# EAGLE library part TS6_7.5 (library wheat)
TERMINAL STRIP, 46 POSITION 7.5MM
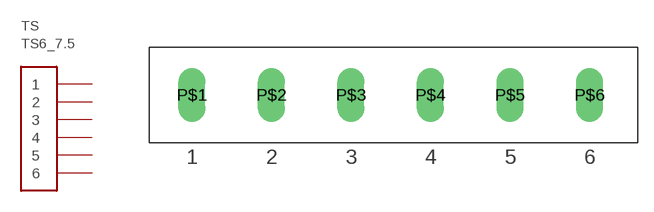
[diagram p20: symbol with the pads of TS6_7.5; footprint TS6_7.5]

Designator prefix TS

## TS6_7.5  [TS6_7.5]
P$1  1  pas
P$2  2  pas
P$3  3  pas
P$4  4  pas
P$5  5  pas
P$6  6  pas

## Footprint TS6_7.5 (pad centres in mm)
TERMINAL STRIP, 6 POS 7.5 MM
drill 1.27 pad 2.54 long: P$1 0,0; P$2 7.5,0; P$3 15,0; P$4 22.5,0; P$5 30,0; P$6 37.5,0